# EAGLE library part APA102 (library ELEC327 copy)
APA102 SPI RGB LED APA102 is a chainable RGB LED. The control protocol is a variant of SPI.
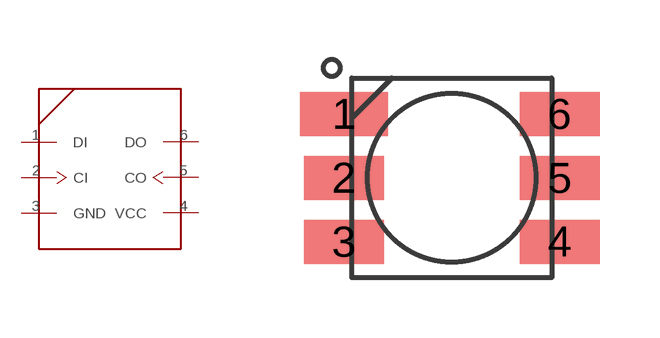
[diagram p1: symbol with the pads of 5050; footprint 5050]

Designator prefix -

## APA102  [5050]
1  DI  in
2  CI  in
3  GND  pwr
4  VCC  pwr
5  CO  out
6  DO  out

## Footprint 5050 (pad centres in mm)
APA102 5050 Footprint Using the BL-HBGR32L-3-TRB-8 Datasheet as reference ( 2007-BL-HBGR32L-3-TRB-8TR-ND)
smd 2.2 x 1.1: 1 -2.7,1.6
smd 2 x 1.1: 2 -2.7,0; 3 -2.7,-1.6; 4 2.7,-1.6; 5 2.7,0; 6 2.7,1.6